# Altium integrated library EEUEB1H470.IntLib: 1 symbol
Pins are listed as number, name and electrical type; pins without a type are passive.

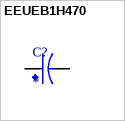
[diagram p0: symbol EEUEB1H470]

## EEUEB1H470
designator C?
CAP ALUM 47UF 20% 50V RADIAL; MP: EEU-EB1H470; MF: Panasonic Electronic Components; SnapEDA_Link: https://www.snapeda.com/parts/EEU-EB1H470/Panasonic/view-part/6222294/?ref=snap; Availability: In Stock; Check_prices: https://www.snapeda.com/parts/EEU-EB1H470/Panasonic/view-part/6222294/?ref=eda; Package: RADIAL-2 Panasonic; Price: None; Value: *
footprint CAPPRD250W50D630H1500
pins: N, P